# Altium footprint library passives.PcbLib: 30 footprints (part 1 of 2)
Each footprint in its own frame and in the unit in brackets; x right, y up, seen from the top. Pads: shape width x height; smd on the part's side, far side on the other; paste and mask are expansions set on the pad; w line width, h text height; cw(c..) or ccw(c..) is an arc to the next point about the centre after c.
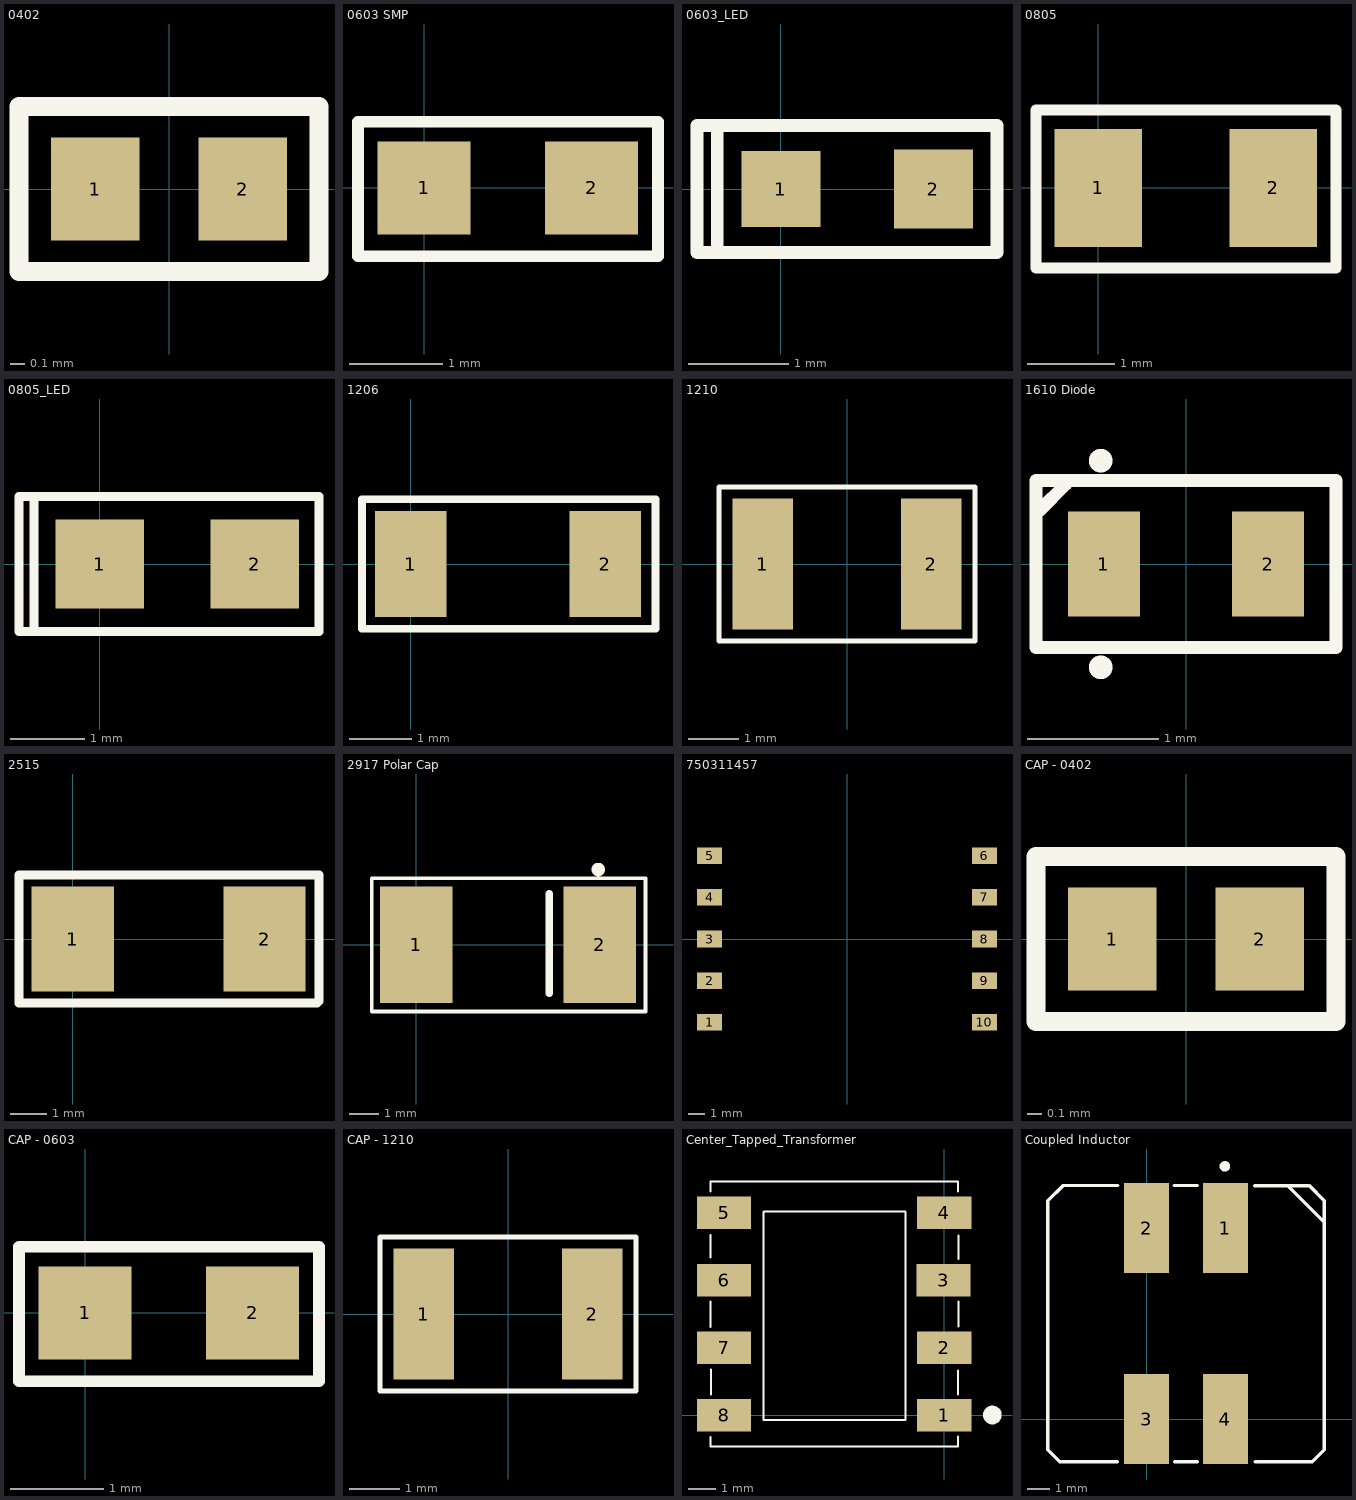
[diagram p0: the footprints below, top view; thin cyan lines are the x and y axes]

## 0402 [mm]
pads (2):
  rect 0.6x0.7 smd: 1(-0.5,0) 2(0.5,0)
Top Overlay:
  lines w0.127: -1.016,-0.559 1.016,-0.559 1.016,0.559 -1.016,0.559 -1.016,-0.559
3D body: height 0.36, standoff 0, extent -0.5,-0.248 0.5,0.254

## 0603 SMP [mm]
pads (2):
  rect 1x1 smd: 1(0,0) 2(1.8,0)
Top Overlay:
  lines w0.127: -0.711,-0.737 -0.711,0.711 2.515,0.711 2.515,-0.737 -0.711,-0.737
3D body: height 1, standoff 0, extent -0.025,-0.483 1.829,0.483

## 0603_LED [mil]
pads (2):
  rect 31x30 smd: 1(0,0)
  rect 31x31 smd: 2(60,0)
Top Overlay:
  lines w5: -25,-25 -25,25 ; -25,-25 85,-25 85,25 -25,25 ; -25,-25 -33,-25 -33,25 -25,25

## 0805 [mm]
pads (2):
  rect 1x1.35 smd: 1(0,0) 2(2,0)
Top Overlay:
  lines w0.127: -0.711,-0.914 2.718,-0.914 2.718,0.889 -0.711,0.889 -0.711,-0.914

## 0805_LED [mm]
pads (2):
  rect 1.2x1.2 smd: 1(0,0) 2(2.1,0)
Top Overlay:
  lines w0.127: -0.889,-0.914 -0.889,0.914 ; -1.092,-0.914 -1.092,0.914 -0.737,0.914 2.972,0.914 2.972,-0.914 -0.737,-0.914 -1.092,-0.914

## 1206 [mm]
pads (2):
  rect 1.15x1.7 smd: 1(0,0) 2(3.125,0)
Top Overlay:
  lines w0.127: -0.787,-1.041 -0.787,1.041 3.937,1.041 3.937,-1.041 -0.787,-1.041

## 1210 [mm]
pads (2):
  rect 1.2x2.6 smd: 1(-1.675,0) 2(1.675,0)
Top Overlay:
  lines w0.1: -2.54,-1.524 2.54,-1.524 2.54,1.524 -2.54,1.524 -2.54,-1.524
3D body: height 2.1, standoff 0, extent -1.803,-1.27 1.803,1.27

## 1610 Diode [mm]
pads (2):
  rect 0.55x0.8 smd: 1(-0.625,0) 2(0.625,0)
Top Overlay:
  lines w0.1: -1.118,0.406 -0.914,0.61 ; -1.143,-0.635 1.143,-0.635 1.143,0.635 -1.143,0.635 -1.143,-0.635
  lines w0.15: -0.636,-0.782 ccw(c-0.65,-0.787) -0.635,-0.787 ; -0.636,0.793 ccw(c-0.65,0.787) -0.635,0.787

## 2515 [mm]
pads (2):
  rect 2.29x2.92 smd: 1(0,0) 2(5.34,0)
Top Overlay:
  lines w0.254: 6.807,-1.778 -1.5,-1.778 -1.5,1.778 6.858,1.778 6.858,-1.727
3D body: height 0.55, standoff 0, extent -0.432,-1.55 5.868,1.55

## 2917 Polar Cap [mm]
pads (2):
  rect 2.5x4 smd: 1(0,0) 2(6.3,0)
Top Overlay:
  circle w0.254: c6.248,2.591 r0.105
  lines w0.127: -1.524,-2.286 -1.524,2.286 7.874,2.286 7.874,-2.286 -1.524,-2.286
  lines w0.254: 4.572,-1.651 4.572,1.753
3D body: height 2.8, standoff -0.1, extent -0.524,-2.166 6.976,2.134

## 750311457 [mm]
pads (10):
  rect 1.5x1 smd: 1(-8.18,-4.96) 2(-8.18,-2.48) 3(-8.18,0) 4(-8.18,2.48) 5(-8.18,4.96) 6(8.18,4.96) 7(8.18,2.48) 8(8.18,0) 9(8.18,-2.48) 10(8.18,-4.96)
3D body: height 12.4, standoff -0.1, extent -8.901,-6.724 8.849,6.776

## CAP - 0402 [mm]
pads (2):
  rect 0.6x0.7 smd: 1(-0.5,0) 2(0.5,0)
Top Overlay:
  lines w0.127: -1.016,-0.559 1.016,-0.559 1.016,0.559 -1.016,0.559 -1.016,-0.559
3D body: height 0.55, standoff 0, extent -0.525,-0.275 0.525,0.275

## CAP - 0603 [mm]
pads (2):
  rect 1x1 smd: 1(0,0) 2(1.8,0)
Top Overlay:
  lines w0.127: -0.711,-0.737 -0.711,0.711 2.515,0.711 2.515,-0.737 -0.711,-0.737
3D body: height 0.9, standoff 0, extent 0.09,-0.45 1.79,0.45

## CAP - 1210 [mm]
pads (2):
  rect 1.2x2.6 smd: 1(-1.675,0) 2(1.675,0)
Top Overlay:
  lines w0.1: -2.54,-1.524 -2.54,1.524 2.54,1.524 2.54,-1.524 -2.54,-1.524
3D body: height 1.8, standoff 0, extent -1.75,-1.35 1.75,1.35

## Center_Tapped_Transformer [mm]
pads (8):
  rect 2x1.2 smd: 1(0,0) 2(0,2.49) 3(-0.025,4.98) 4(0,7.46) 5(-8.13,7.46) 6(-8.13,4.98) 7(-8.13,2.49) 8(-8.13,0)
Top Overlay:
  lines w0.075: -8.636,3.251 -8.636,4.191 ; -8.636,5.817 -8.636,6.655 ; -8.635,-0.812 -8.635,-1.16 0.505,-1.16 0.505,-0.79 ; -8.635,8.256 -8.635,8.62 0.505,8.62 0.505,8.258 ; -8.611,0.762 -8.611,1.676 ; -6.68,7.493 -6.68,-0.178 -1.422,-0.178 -1.422,7.493 -1.448,7.518 -6.655,7.518 ; 0.508,0.762 0.508,1.651 ; 0.533,3.277 0.533,4.191 ; 0.533,5.766 0.533,6.629
  lines w0.35: 1.941,0.048 ccw(c1.778,0) 1.948,0

## Coupled Inductor [mm]
pads (4):
  rect 2x4 smd: 1(3.5,8.5) 2(0,8.5) 3(0,0) 4(3.5,0)
Top Overlay:
  circle w0.254: c3.48,11.252 r0.105
  lines w0.15: -1.3,-1.9 -3.866,-1.9 -4.4,-1.366 -4.4,9.722 -3.722,10.4 -1.284,10.4 ; 1.219,10.4 2.261,10.4 ; 1.245,-1.9 2.261,-1.9 ; 4.801,10.389 6.071,10.389 6.274,10.389 ; 4.831,-1.9 7.371,-1.9 7.9,-1.371 7.9,9.728 7.228,10.4 ; 7.216,10.389 6.274,10.389 ; 7.9,8.763 6.274,10.389